# Altium schematic symbol library pad4x4.SchLib: 1 symbol
Pins are listed as number, name and electrical type; pins without a type are passive.

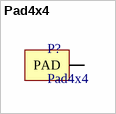
[diagram p0: symbol Pad4x4]

## Pad4x4
designator P?
footprint PCBComponent_1
pins: 1 PAD